# Altium footprint library TRIM_3361P-1-203GLF.PcbLib: 1 footprints
Each footprint in its own frame and in the unit in brackets; x right, y up, seen from the top. Pads: shape width x height; smd on the part's side, far side on the other; paste and mask are expansions set on the pad; w line width, h text height; cw(c..) or ccw(c..) is an arc to the next point about the centre after c.
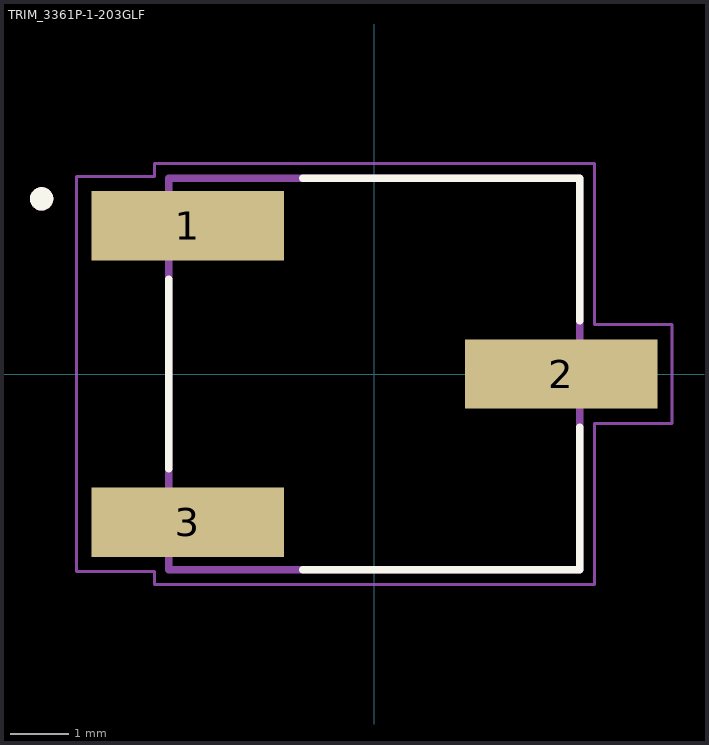
[diagram p0: the footprint, top view; thin cyan lines are the x and y axes]

## TRIM_3361P-1-203GLF [mm]
height 5.84
pads (3):
  rect 3.3x1.19 smd: 1(-3.2,2.54) 2(3.2,0) 3(-3.2,-2.54)
Top Overlay:
  circle w0.2: c-5.7,3 r0.1
  lines w0.127: -3.52,-1.625 -3.52,1.625 ; -1.23,-3.355 3.52,-3.355 3.52,-0.915 ; -1.23,3.355 3.52,3.355 3.52,0.915
Mechanical 13:
  circle w0.2: c-5.7,3 r0.1
  lines w0.127: -3.52,-3.355 -3.52,3.355 3.52,3.355 3.52,-3.355 -3.52,-3.355
Mechanical 15:
  lines w0.05: -5.1,-3.385 -5.1,3.385 -3.77,3.385 -3.77,3.605 3.77,3.605 3.77,0.845 5.1,0.845 5.1,-0.845 3.77,-0.845 3.77,-3.605 -3.77,-3.605 -3.77,-3.385 -5.1,-3.385